# EAGLE library part 43650-0616 (library molex)
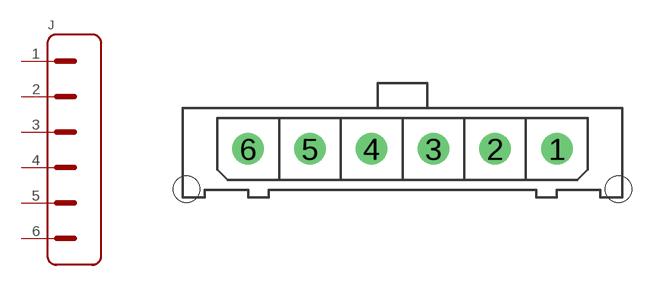
[diagram p9: symbol with the pads of 43650-0616; footprint 43650-0616]

Designator prefix J

## 43650-0616  [43650-0616]
1  1
2  2
3  3
4  4
5  5
6  6

## Footprint 43650-0616 (pad centres in mm)
drill 1.02: 1 7.5,0; 2 4.5,0; 3 1.5,0; 4 -1.5,0; 5 -4.5,0; 6 -7.5,0
hole 1.27 at -10.5,-1.96
hole 1.27 at 10.5,-1.96